# Altium schematic symbol library MAU201.SchLib: 1 symbol
Pins are listed as number, name and electrical type; pins without a type are passive.

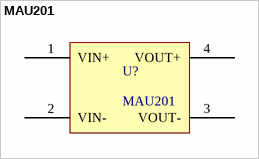
[diagram p0: symbol MAU201]

## MAU201
designator U?
High isolation,single output DC/DC converter,3.3output,5 input
pins: 1 VIN+, 2 VIN-, 3 VOUT-, 4 VOUT+